# EAGLE library part IC-SOCKET-2X9P (library OPL)
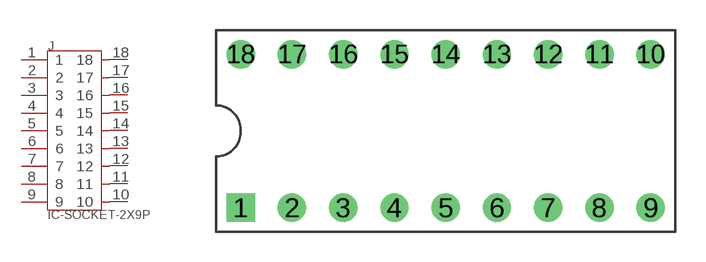
[diagram p32: symbol with the pads of DIP-18; footprint DIP-18]

Designator prefix J

## IC-SOCKET-2X9P-320070007  [DIP-18]
1  1
2  2
3  3
4  4
5  5
6  6
7  7
8  8
9  9
10  10
11  11
12  12
13  13
14  14
15  15
16  16
17  17
18  18

## Footprint DIP-18 (pad centres in mm)
drill 0.9 pad 1.4 square: 1 -10.16,-3.81
drill 0.9 pad 1.4: 2 -7.62,-3.81; 3 -5.08,-3.81; 4 -2.54,-3.81; 5 0,-3.81; 6 2.54,-3.81; 7 5.08,-3.81; 8 7.62,-3.81; 9 10.16,-3.81; 10 10.16,3.81; 11 7.62,3.81; 12 5.08,3.81; 13 2.54,3.81; 14 0,3.81; 15 -2.54,3.81; 16 -5.08,3.81; 17 -7.62,3.81; 18 -10.16,3.81